# Altium footprint library zxevo.PcbLib: 77 footprints (part 4 of 5)
Each footprint in its own frame and in the unit in brackets; x right, y up, seen from the top. Pads: shape width x height; smd on the part's side, far side on the other; paste and mask are expansions set on the pad; w line width, h text height; cw(c..) or ccw(c..) is an arc to the next point about the centre after c.
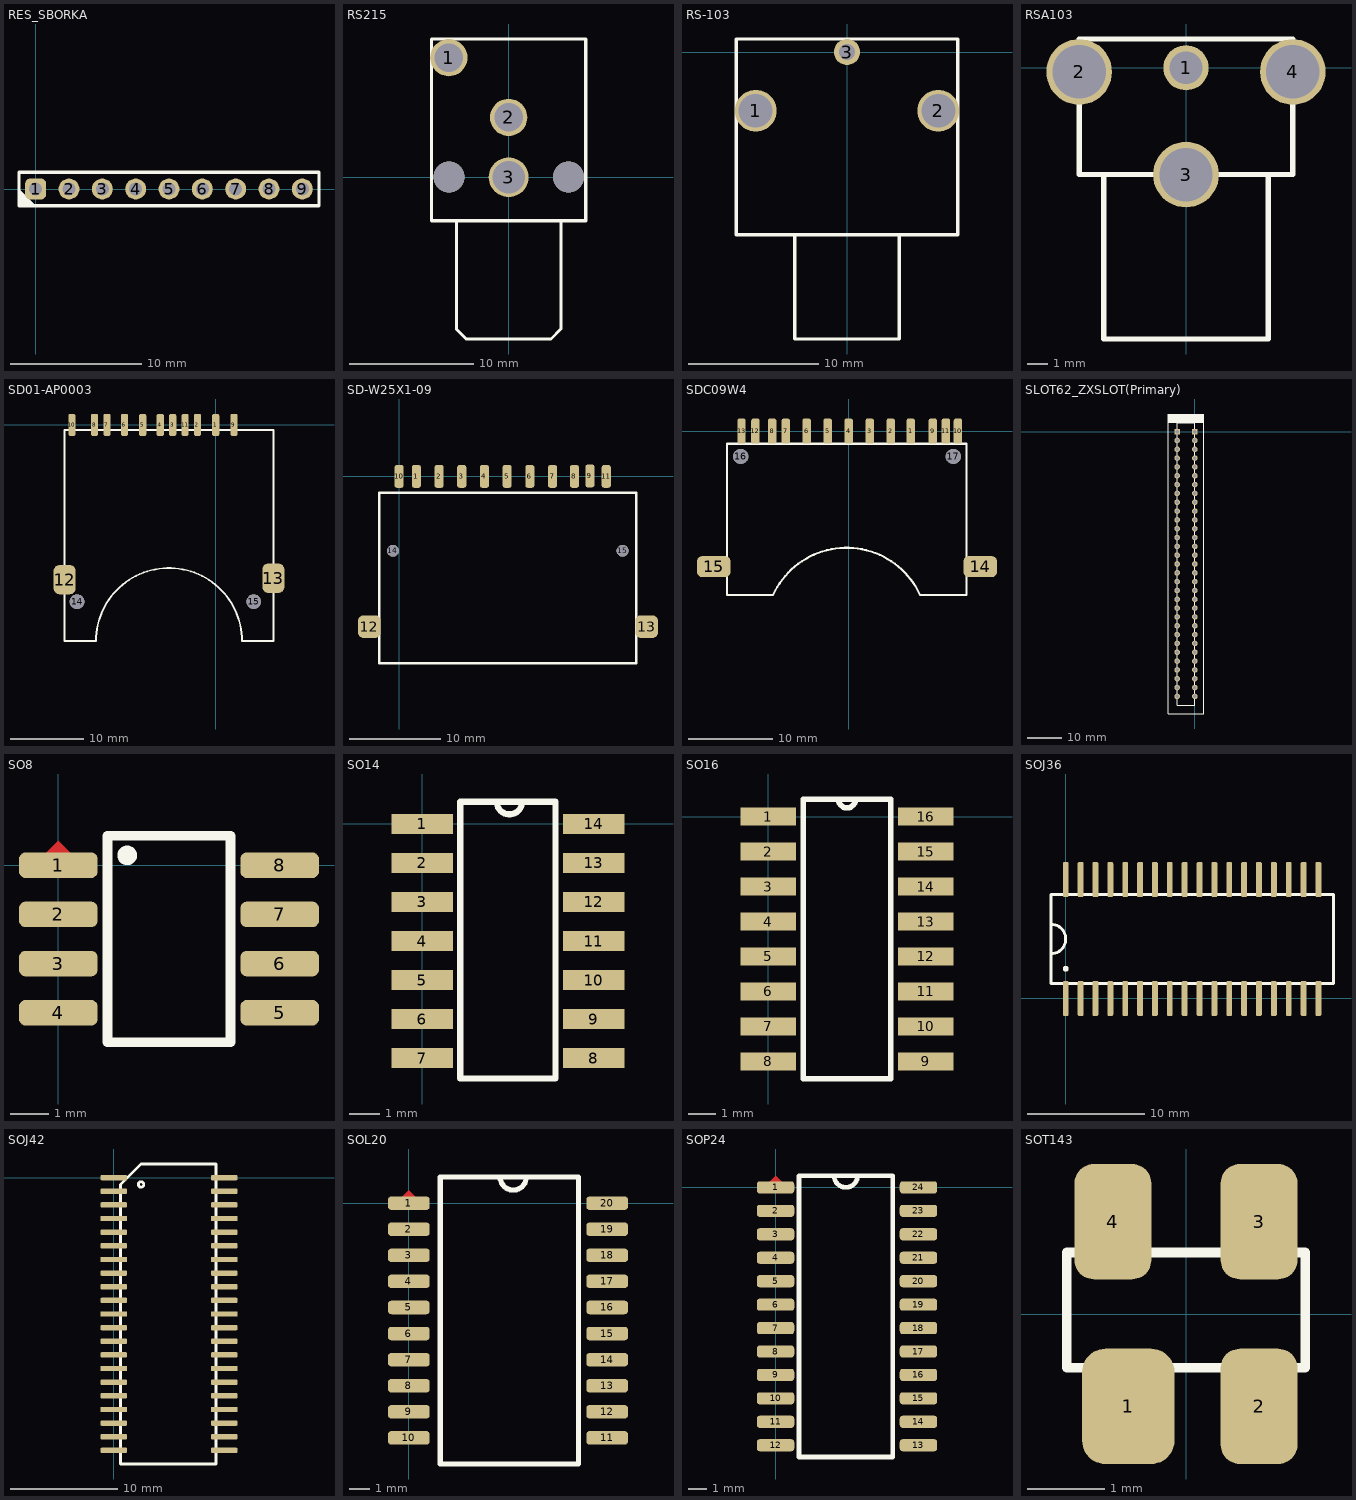
[diagram p3: the footprints below, top view; thin cyan lines are the x and y axes]

## RES_SBORKA [mm]
pads (9):
  rrect50% 1.6x1.6 hole 1: 1(0,0)
  round 1.6 hole 1: 2(2.54,0) 3(5.08,0) 4(7.62,0) 5(10.16,0) 6(12.7,0) 7(15.24,0) 8(17.78,0) 9(20.32,0)
Top Overlay:
  region: 0,-1.27 -1.27,0 -1.27,-1.27
  lines w0.254: -1.27,-1.27 -1.27,1.27 21.59,1.27 21.59,-1.27 -1.27,-1.27

## RS215 [mm]
pads (3):
  round 3 hole 2.3: 1(-4.8,9.6) 2(0,4.8)
  round 3.2 hole 2.6: 3(0,0)
via 4.8,0 diameter 2.5 hole 2.5
via -4.8,0 diameter 2.5 hole 2.5
Top Overlay:
  lines w0.254: -4.2,-3.5 -4.2,-12.2 -3.4,-13 3.4,-13 4.2,-12.2 4.2,-3.5 ; -6.2,-3.5 6.2,-3.5 6.2,11.1 -6.2,11.1 -6.2,-3.5

## RS-103 [mm]
pads (3):
  round 3.2 hole 2.6: 1(-7,-4.5) 2(7,-4.5)
  round 2 hole 1.2: 3(0,0)
Top Overlay:
  lines w0.254: -5,-14 -0.5,-14 4,-14 ; 4,-14 8.5,-14 8.5,1 -8.5,1 -8.5,-14 -4,-14 -4,-22 4,-22 4,-14

## RSA103 [mm]
pads (4):
  round 2.2 hole 1.6: 1(0,0)
  round 3.2 hole 2.6: 2(-5.2,-0.2) 3(0,-5.2) 4(5.2,-0.2)
Top Overlay:
  lines w0.254: -4,-5.2 -4,-13.2 4,-13.2 4,-5.2 ; -5.2,-5.2 -5.2,1.4 5.2,1.4 5.2,-5.2 -5.2,-5.2

## SD01-AP0003 [mm]
pads (15):
  rrect50% 1x3 smd: 1(0,0) 2(-2.5,0) 3(-5.9,0) 4(-7.6,0) 5(-10,0) 6(-12.5,0) 7(-14.9,0) 8(-16.6,0) 9(2.5,0) 10(-19.7,0) 11(-4.2,0)
  rrect50% 3x4 smd: 12(-20.7,-21.2) 13(7.9,-21)
  round 2 hole 2 unplated: 14(-19,-24.2) 15(5.2,-24.2)
Top Overlay:
  lines w0.254: -20.7,-29.6 -16.4,-29.6 cw(c-6.4,-29.6) 3.6,-29.6 7.9,-29.6 7.9,-0.7 -20.7,-0.7 -20.7,-29.6

## SD-W25X1-09 [mm]
pads (15):
  rrect50% 1x2.5 smd: 1(1.88,0) 2(4.38,0) 3(6.88,0) 4(9.38,0) 5(11.88,0) 6(14.38,0) 7(16.88,0) 8(19.3,0) 9(21,0.05) 10(-0.02,0) 11(22.8,0)
  rrect50% 2.5x2.5 smd: 12(-3.3,-16.55) 13(27.25,-16.55)
  round 1.3 hole 1.3 unplated: 14(-0.7,-8.2) 15(24.6,-8.2)
Top Overlay:
  lines w0.254: -2.2,-20.4 -2.2,-20.5 -2.2,-20.6 ; -2.2,-20.6 -2.2,-1.8 26.1,-1.8 26.1,-20.6 -2.2,-20.6

## SDC09W4 [mm]
pads (17):
  rrect50% 1x3 smd: 1(7.38,0) 2(5,0) 3(2.5,0) 4(0,0) 5(-2.5,0) 6(-5,0) 7(-7.49,0) 8(-9.11,0) 9(10.01,0) 10(13,0) 11(11.56,0) 12(-11.1,0) 13(-12.75,0)
  rrect50% 4x2.5 smd: 14(15.65,-16.13) 15(-16.05,-16.13)
  round 1.8 hole 1.8 unplated: 16(-12.85,-3) 17(12.45,-3)
Top Overlay:
  lines w0.254: -14.5,-18.5 -14.5,-1.5 14,-1.5 14,-18.5 14,-19.5 8.5,-19.5 ; -14.5,-18 -14.5,-19.5 -9,-19.5 ; -8.998,-19.495 cw(c-0.25,-23.5) 8.498,-19.495

## SLOT62_ZXSLOT(Primary) [mm]
pads (62):
  rect 1.6x1.6 hole 1: A1(0,0) B1(-5.08,0)
  round 1.6 hole 1: A2(0,-2.54) A3(0,-5.08) A4(0,-7.62) A5(0,-10.16) A6(0,-12.7) A7(0,-15.24) A8(0,-17.78) A9(0,-20.32) A10(0,-22.86) A11(0,-25.4) A12(0,-27.94) A13(0,-30.48) A14(0,-33.02) A15(0,-35.56) A16(0,-38.1) A17(0,-40.64) A18(0,-43.18) A19(0,-45.72) A20(0,-48.26) A21(0,-50.8) A22(0,-53.34) A23(0,-55.88) A24(0,-58.42) A25(0,-60.96) A26(0,-63.5) A27(0,-66.04) A28(0,-68.58) A29(0,-71.12) A30(0,-73.66) A31(0,-76.2) B2(-5.08,-2.54) B3(-5.08,-5.08) B4(-5.08,-7.62) B5(-5.08,-10.16) B6(-5.08,-12.7) B7(-5.08,-15.24) B8(-5.08,-17.78) B9(-5.08,-20.32) B10(-5.08,-22.86) B11(-5.08,-25.4) B12(-5.08,-27.94) B13(-5.08,-30.48) B14(-5.08,-33.02) B15(-5.08,-35.56) B16(-5.08,-38.1) B17(-5.08,-40.64) B18(-5.08,-43.18) B19(-5.08,-45.72) B20(-5.08,-48.26) B21(-5.08,-50.8) B22(-5.08,-53.34) B23(-5.08,-55.88) B24(-5.08,-58.42) B25(-5.08,-60.96) B26(-5.08,-63.5) B27(-5.08,-66.04) B28(-5.08,-68.58) B29(-5.08,-71.12) B30(-5.08,-73.66) B31(-5.08,-76.2)
Top Overlay:
  region: -7.62,2.54 2.54,2.54 2.54,5.08 -7.62,5.08
  lines w0.254: -7.62,-81.28 2.54,-81.28 2.54,5.08 -7.62,5.08 -7.62,-81.28 ; -5.08,-78.74 0,-78.74 0,2.54 -5.08,2.54 -5.08,-78.74
3D body "5176138-2--3DModel-STEP-1.STEP": height 15.13, standoff -3.67, extent -7.287,-80.8 2.187,4.544

## SO8 [mil]
pads (8):
  rrect50% 80x26 smd: 1(0,0) 2(0,-50) 3(0,-100) 4(0,-150) 5(225,-150) 6(225,-100) 7(225,-50) 8(225,0)
Top Layer:
  region: 25,0 0,25 -25,0
Top Overlay:
  circle w10: c70,10 r5
  lines w10: 50,-180 50,30 175,30 175,-180 50,-180

## SO14 [mm]
pads (14):
  rect 2x0.65 smd: 1(0,0) 2(0,-1.27) 3(0,-2.54) 4(0,-3.81) 5(0,-5.08) 6(0,-6.35) 7(0,-7.62) 8(5.588,-7.62) 9(5.588,-6.35) 10(5.588,-5.08) 11(5.588,-3.81) 12(5.588,-2.54) 13(5.588,-1.27) 14(5.588,0)
Top Overlay:
  lines w0.2: 2.428,0.72 ccw(c2.84,0.72) 3.252,0.72 ; 1.24,-8.28 4.34,-8.28 4.34,0.72 1.24,0.72 1.24,-8.28
3D body "CircuitWorks-SO-14 (PIC16F684).step": height 1.55, standoff -0.05, extent -0.195,-8.145 5.795,0.545

## SO16 [mm]
pads (16):
  rect 2x0.65 smd: 1(0,0) 2(0,-1.27) 3(0,-2.54) 4(0,-3.81) 5(0,-5.08) 6(0,-6.35) 7(0,-7.62) 8(0,-8.89) 9(5.715,-8.89) 10(5.715,-7.62) 11(5.715,-6.35) 12(5.715,-5.08) 13(5.715,-3.81) 14(5.715,-2.54) 15(5.715,-1.27) 16(5.715,0)
Top Overlay:
  lines w0.2: 2.54,0.635 ccw(c2.857,0.635) 3.175,0.635 ; 1.27,-9.525 4.445,-9.525 4.445,0.635 1.27,0.635 1.27,-9.525
3D body "CircuitWorks-SO-16.step": height 1.45, standoff 0, extent -0.105,-9.491 5.8,0.491

## SOJ36 [mm]
pads (36):
  rrect50% 0.5x3 smd: 1(0,0) 2(1.27,0) 3(2.54,0) 4(3.81,0) 5(5.08,0) 6(6.35,0) 7(7.62,0) 8(8.89,0) 9(10.16,0) 10(11.43,0) 11(12.7,0) 12(13.97,0) 13(15.24,0) 14(16.51,0) 15(17.78,0) 16(19.05,0) 17(20.32,0) 18(21.59,0) 19(21.59,10.16) 20(20.32,10.16) 21(19.05,10.16) 22(17.78,10.16) 23(16.51,10.16) 24(15.24,10.16) 25(13.97,10.16) 26(12.7,10.16) 27(11.43,10.16) 28(10.16,10.16) 29(8.89,10.16) 30(7.62,10.16) 31(6.35,10.16) 32(5.08,10.16) 33(3.81,10.16) 34(2.54,10.16) 35(1.27,10.16) 36(0,10.16)
Top Overlay:
  circle w0.254: c0,2.54 r0.127
  lines w0.254: -1.27,3.81 ccw(c-1.27,5.08) -1.27,6.35 ; -1.27,1.27 -1.27,8.89 22.86,8.89 22.86,1.27 -1.27,1.27

## SOJ42 [mm]
pads (42):
  rrect50% 2.5x0.5 smd: 1(0,0) 2(0,-1.27) 3(0,-2.54) 4(0,-3.81) 5(0,-5.08) 6(0,-6.35) 7(0,-7.62) 8(0,-8.89) 9(0,-10.16) 10(0,-11.43) 11(0,-12.7) 12(0,-13.97) 13(0,-15.24) 14(0,-16.51) 15(0,-17.78) 16(0,-19.05) 17(0,-20.32) 18(0,-21.59) 19(0,-22.86) 20(0,-24.13) 21(0,-25.4) 22(10.287,-25.4) 23(10.287,-24.13) 24(10.287,-22.86) 25(10.287,-21.59) 26(10.287,-20.32) 27(10.287,-19.05) 28(10.287,-17.78) 29(10.287,-16.51) 30(10.287,-15.24) 31(10.287,-13.97) 32(10.287,-12.7) 33(10.287,-11.43) 34(10.287,-10.16) 35(10.287,-8.89) 36(10.287,-7.62) 37(10.287,-6.35) 38(10.287,-5.08) 39(10.287,-3.81) 40(10.287,-2.54) 41(10.287,-1.27) 42(10.287,0)
Top Overlay:
  circle w0.254: c2.54,-0.635 r0.254
  lines w0.254: 0.635,-26.67 0.635,-0.635 2.54,1.27 9.525,1.27 9.525,-26.67 0.635,-26.67

## SOL20 [mil]
pads (20):
  rrect50% 80x26 smd: 1(0,0) 2(0,-50) 3(0,-100) 4(0,-150) 5(0,-200) 6(0,-250) 7(0,-300) 8(0,-350) 9(0,-400) 10(0,-450) 11(380,-450) 12(380,-400) 13(380,-350) 14(380,-300) 15(380,-250) 16(380,-200) 17(380,-150) 18(380,-100) 19(380,-50) 20(380,0)
Top Layer:
  region: 25,0 0,25 -25,0
Top Overlay:
  lines w10: 60,-500 60,50 325,50 325,-500 60,-500 ; 175,50 ccw(c200,50) 225,50 175,50

## SOP24 [mil]
pads (24):
  rrect50% 80x26 smd: 1(0,0) 2(0,-50) 3(0,-100) 4(0,-150) 5(0,-200) 6(0,-250) 7(0,-300) 8(0,-350) 9(0,-400) 10(0,-450) 11(0,-500) 12(0,-550) 13(305,-550) 14(305,-500) 15(305,-450) 16(305,-400) 17(305,-350) 18(305,-300) 19(305,-250) 20(305,-200) 21(305,-150) 22(305,-100) 23(305,-50) 24(305,0)
Top Layer:
  region: -25,0 25,0 0,25
Top Overlay:
  lines w10: 125,25 ccw(c150,25) 175,25 ; 50,-575 50,25 250,25 250,-575 50,-575

## SOT143 [mm]
pads (4):
  rrect50% 1.2x1.5 smd: 1(-0.75,-1.2)
  rrect50% 1x1.5 smd: 2(0.95,-1.2) 3(0.95,1.2) 4(-0.95,1.2)
Top Overlay:
  lines w0.127: -1.55,-0.7 1.55,-0.7 1.55,0.8 -1.55,0.8 -1.55,-0.7